# Altium footprint library RXB6.PCBLIB: 2 footprints
Each footprint in its own frame and in the unit in brackets; x right, y up, seen from the top. Pads: shape width x height; smd on the part's side, far side on the other; paste and mask are expansions set on the pad; w line width, h text height; cw(c..) or ccw(c..) is an arc to the next point about the centre after c.
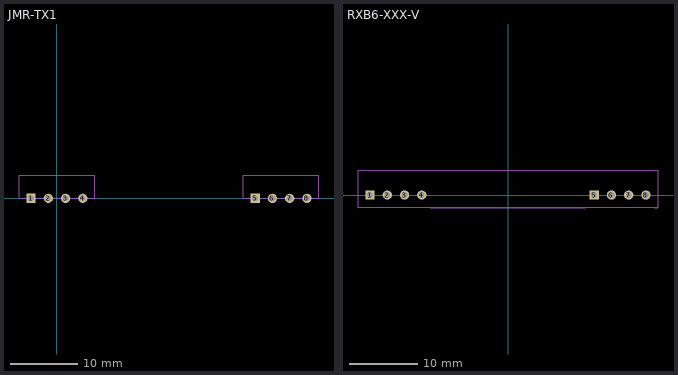
[diagram p0: the footprints below, top view; thin cyan lines are the x and y axes]

## JMR-TX1 [mil]
pads (8):
  rect 53.46x53.46 / inner rect 60x60 / far side rect 53.46x53.46 hole 33.46: 1(-150,0) 5(1150,0)
  round 53.46 / inner round 60 / far side round 53.46 hole 33.46: 2(-50,0) 3(50,0) 4(150,0) 6(1250,0) 7(1350,0) 8(1450,0)
Assembly Top:
  lines w5: -220,0 220,0 220,135 -220,135 -220,0 ; 1080,0 1080,135 1520,135 1520,0 1080,0
Top Assembly:
  lines w5: -200,0 -220,0 -220,135 220,135 220,0 200,0 ; 1100,0 1080,0 1080,135 1520,135 1520,0 1500,0

## RXB6-XXX-V [mil]
pads (8):
  rect 53.46x53.46 / inner rect 60x60 / far side rect 53.46x53.46 hole 33.46: 1(-800,0) 5(500,0)
  round 53.46 / inner round 60 / far side round 53.46 hole 33.46: 2(-700,0) 3(-600,0) 4(-500,0) 6(600,0) 7(700,0) 8(800,0)
Assembly Top:
  lines w5: -870,-75 -870,145 870,145 870,-75 -870,-75
Top Assembly:
  lines w5: -850,-75 -870,-75 -870,145 870,145 870,-75 850,-75 ; -450,-75 450,-75